# Altium schematic symbol library Schlib1.SchLib: 1 symbol
Pins are listed as number, name and electrical type; pins without a type are passive.

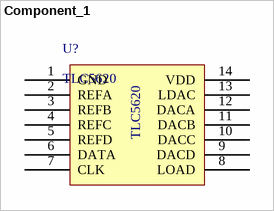
[diagram p0: symbol Component_1]

## Component_1
designator U?, comment TLC5620
pins: 1 GND, 2 REFA, 3 REFB, 4 REFC, 5 REFD, 6 DATA, 7 CLK, 8 LOAD, 9 DACD, 10 DACC, 11 DACB, 12 DACA, 13 LDAC, 14 VDD